# EAGLE library part MY_USBC_16P_USBC_16P (library duckypad)
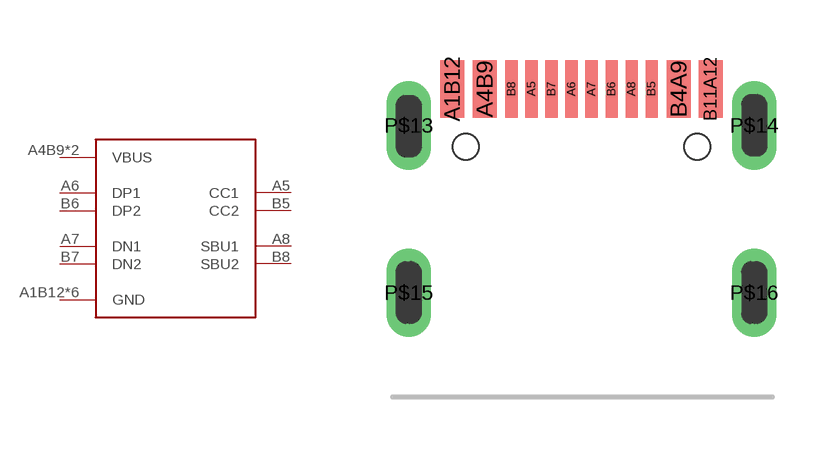
[diagram p4: symbol with the pads of MY_USBC_16P_USBC_16P_FOOT; footprint MY_USBC_16P_USBC_16P_FOOT]

Designator prefix -

## MY_USBC_16P_USBC_16P  [MY_USBC_16P_USBC_16P_FOOT]
A1B12  GND
A4B9  VBUS
A5  CC1
A6  DP1
A7  DN1
A8  SBU1
B4A9  VBUS
B5  CC2
B6  DP2
B7  DN2
B8  SBU2
B11A12  GND
P$13  GND
P$14  GND
P$15  GND
P$16  GND

## Footprint MY_USBC_16P_USBC_16P_FOOT (pad centres in mm)
smd 0.6 x 1.45: A1B12 -3.225,3.848; A4B9 -2.425,3.848; B4A9 2.425,3.848; B11A12 3.225,3.848
smd 0.3 x 1.45: A5 -1.25,3.848; A6 -0.25,3.848; A7 0.25,3.848; A8 1.25,3.848; B5 1.75,3.848; B6 0.75,3.848; B7 -0.75,3.848; B8 -1.75,3.848
drill 0.6 pad 1 long: P$13 -4.32,2.933; P$14 4.32,2.933; P$15 -4.32,-1.248; P$16 4.32,-1.248
hole 0.65 at -2.89,2.402
hole 0.65 at 2.89,2.402